# EAGLE library part TLV5618A (library !synthdiy)
12 bit DAC, 2 outputs, serial input
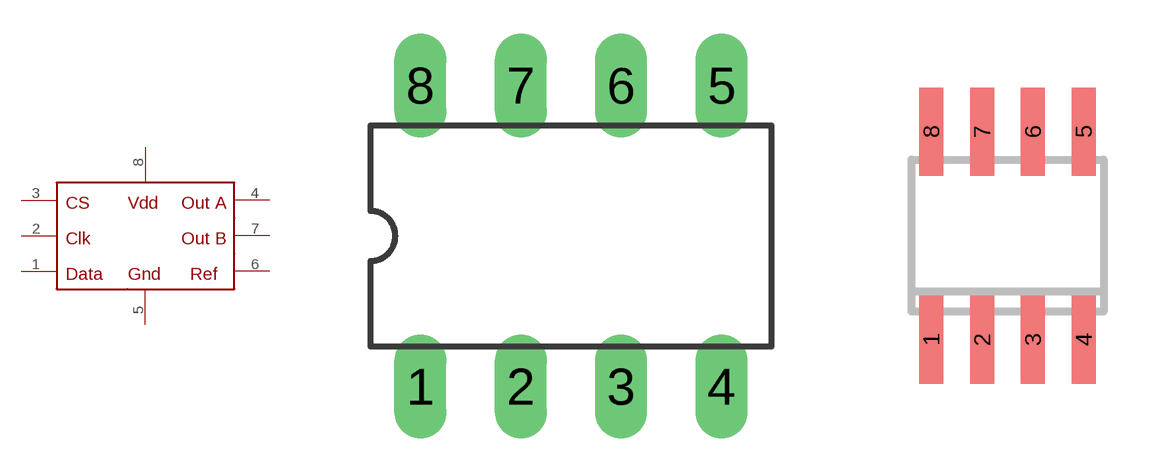
[diagram p7: symbol with the pads of DIL08; footprints DIL08, SO08]

Designator prefix -

## TLV5618AP  [DIL08]
1  P$3
2  P$2
3  P$1
4  P$6
5  P$4
6  P$8
7  P$5
8  P$7

## TLV5618AD  [SO08]
Pads as for DIL08

## Footprint DIL08 (pad centres in mm)
Dual In Line 8
drill 0.813 long: 1 -3.81,-3.81; 2 -1.27,-3.81; 3 1.27,-3.81; 4 3.81,-3.81; 5 3.81,3.81; 6 1.27,3.81; 7 -1.27,3.81; 8 -3.81,3.81

## Footprint SO08 (pad centres in mm)
Small Outline Package 8
smd 0.6 x 2.2: 1 -1.905,-2.6; 2 -0.635,-2.6; 3 0.635,-2.6; 4 1.905,-2.6; 5 1.905,2.6; 6 0.635,2.6; 7 -0.635,2.6; 8 -1.905,2.6